# EAGLE library part DSUB9 (library sj_connectors)
9pin DSUB Connector
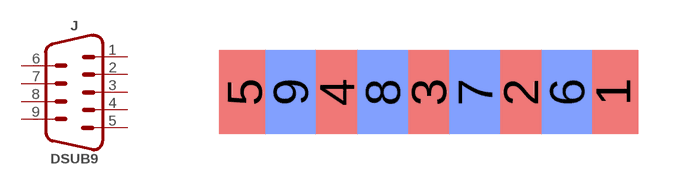
[diagram p15: symbol with the pads of DSUB9-SMD; footprint DSUB9-SMD]

Designator prefix J

## DSUB9SMD  [DSUB9-SMD]
1  1  pas
2  2  pas
3  3  pas
4  4  pas
5  5  pas
6  6  pas
7  7  pas
8  8  pas
9  9  pas

## Footprint DSUB9-SMD (pad centres in mm)
DSUB9 SMD Package
smd 1.5 x 2.5: 1 5.486,-1.417; 2 2.743,-1.417; 3 0,-1.417; 4 -2.743,-1.417; 5 -5.486,-1.417
smd 1.5 x 2.5 bottom: 6 4.115,-1.417; 7 1.372,-1.417; 8 -1.372,-1.417; 9 -4.115,-1.417